# Altium schematic symbol library 音频插座.SchLib: 1 symbol
Pins are listed as number, name and electrical type; pins without a type are passive.

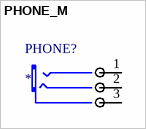
[diagram p0: symbol PHONE_M]

## PHONE_M
designator PHONE?
pins: 1 CHL, 2 CHR, 3 COM